# Altium footprint library KF terminal block.PcbLib: 57 footprints (part 3 of 4)
Each footprint in its own frame and in the unit in brackets; x right, y up, seen from the top. Pads: shape width x height; smd on the part's side, far side on the other; paste and mask are expansions set on the pad; w line width, h text height; cw(c..) or ccw(c..) is an arc to the next point about the centre after c.
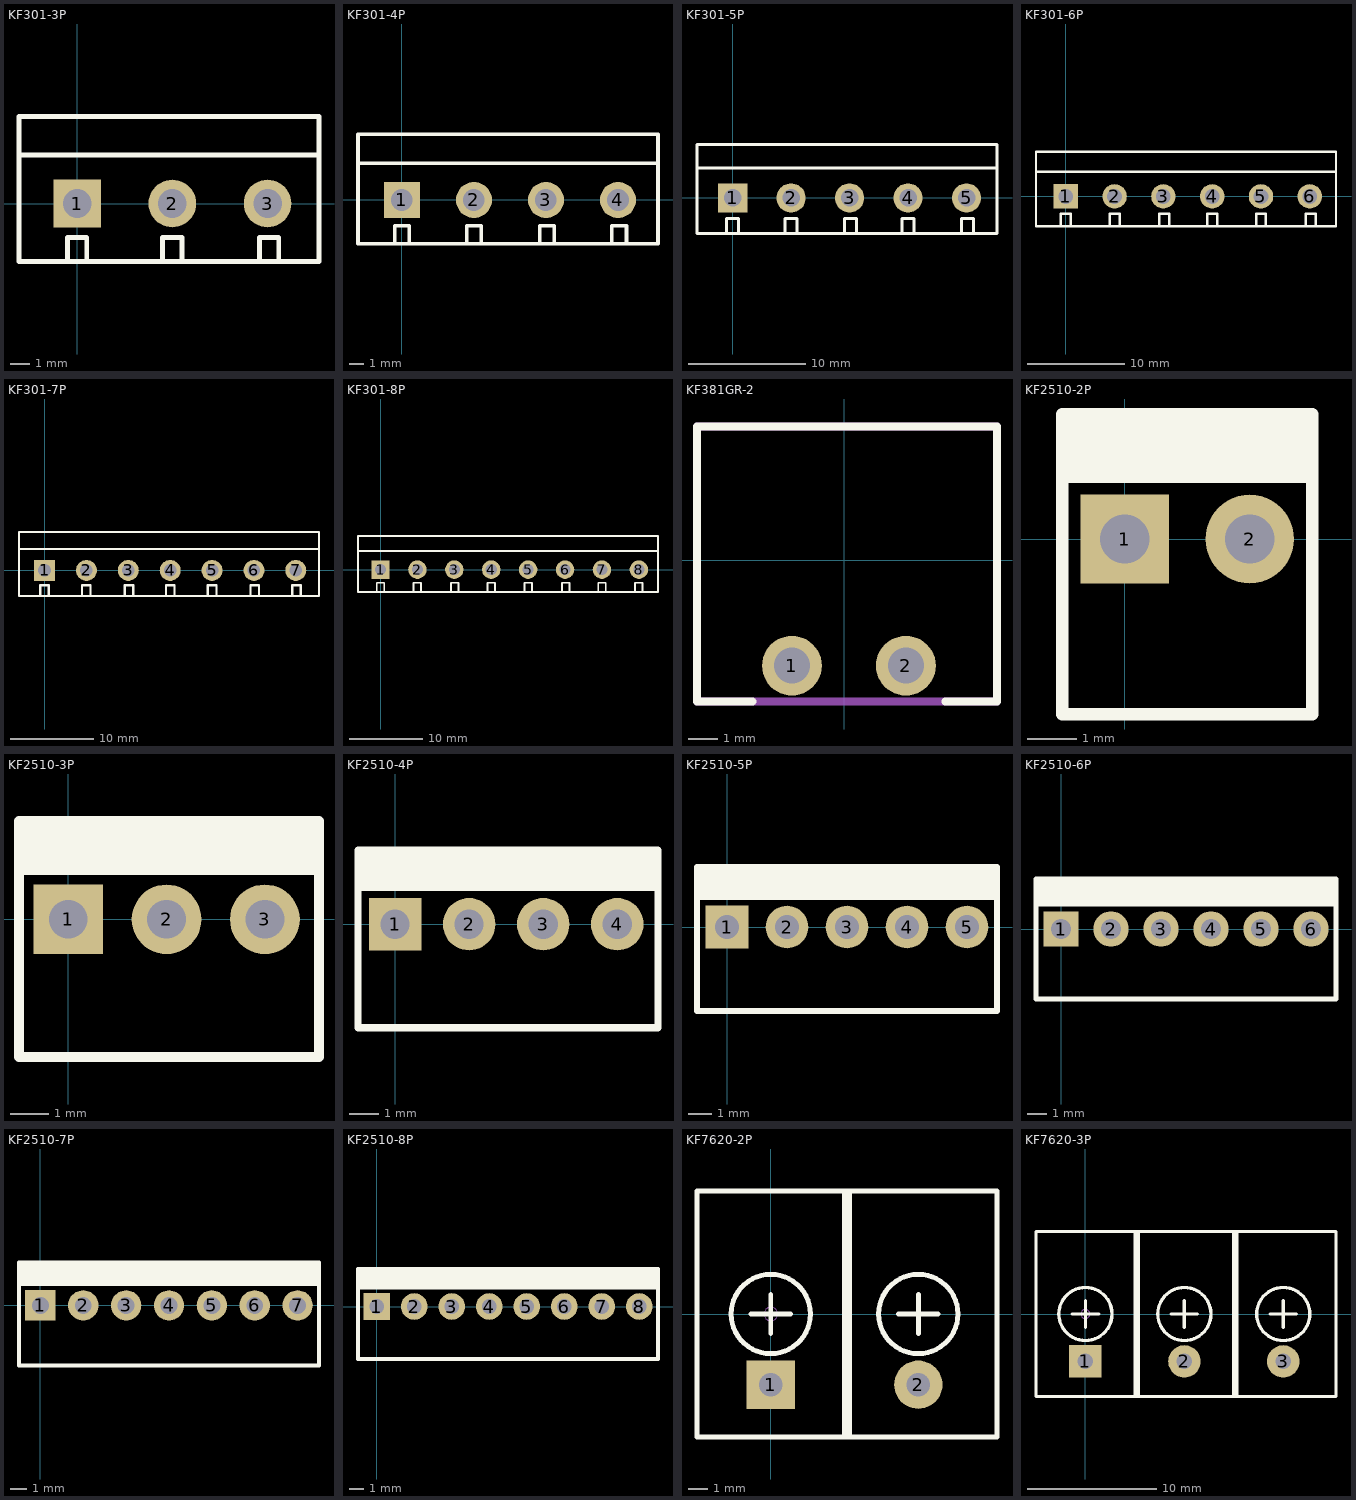
[diagram p2: the footprints below, top view; thin cyan lines are the x and y axes]

## KF301-3P [mm] "ï¿½ï¿½Æ´ï¿½Ó¶ï¿½ï¿½ï¿½/6A"
pads (3):
  rect 2.5x2.5 hole 1.5: 1(0,0)
  round 2.5 hole 1.5: 2(5,0) 3(10,0)
Top Overlay:
  lines w0.254: -3.048,2.54 12.7,2.54 ; -0.508,-3.048 -0.508,-1.778 0.508,-1.778 0.508,-3.048 ; 4.492,-3.048 4.492,-1.778 5.508,-1.778 5.508,-3.048 ; 9.572,-3.048 9.572,-1.778 10.588,-1.778 10.588,-3.048 ; -3.048,-3.048 12.7,-3.048 12.7,4.572 -3.048,4.572 -3.048,-3.048
3D body "KF301.STEP": height 10.05, standoff -3.75, extent -2.87,-3 2.63,4.6
3D body "KF301.STEP": height 10.05, standoff -3.75, extent 2.13,-3 7.63,4.6
3D body "KF301.STEP": height 10.05, standoff -3.75, extent 7.13,-3 12.63,4.6

## KF301-4P [mm] "ï¿½ï¿½Æ´ï¿½Ó¶ï¿½ï¿½ï¿½/6A"
pads (4):
  rect 2.5x2.5 hole 1.5: 1(0,0)
  round 2.5 hole 1.5: 2(5,0) 3(10,0) 4(15,0)
Top Overlay:
  lines w0.254: -3.048,2.54 17.78,2.54 ; -0.508,-3.048 -0.508,-1.778 0.508,-1.778 0.508,-3.048 ; 4.492,-3.048 4.492,-1.778 5.508,-1.778 5.508,-3.048 ; 9.572,-3.048 9.572,-1.778 10.588,-1.778 10.588,-3.048 ; 14.572,-3.048 14.572,-1.778 15.588,-1.778 15.588,-3.048 ; -3.048,-3.048 17.78,-3.048 17.78,4.572 -3.048,4.572 -3.048,-3.048
3D body "KF301.STEP": height 10.05, standoff -3.75, extent 12.13,-3 17.63,4.6
3D body "KF301.STEP": height 10.05, standoff -3.75, extent 7.13,-3 12.63,4.6
3D body "KF301.STEP": height 10.05, standoff -3.75, extent 2.13,-3 7.63,4.6
3D body "KF301.STEP": height 10.05, standoff -3.75, extent -2.87,-3 2.63,4.6

## KF301-5P [mm] "ï¿½ï¿½Æ´ï¿½Ó¶ï¿½ï¿½ï¿½/6A"
pads (5):
  rect 2.5x2.5 hole 1.5: 1(0,0)
  round 2.5 hole 1.5: 2(5,0) 3(10,0) 4(15,0) 5(20,0)
Top Overlay:
  lines w0.254: -3.048,2.54 22.606,2.54 ; -0.508,-3.048 -0.508,-1.778 0.508,-1.778 0.508,-3.048 ; 4.492,-3.048 4.492,-1.778 5.508,-1.778 5.508,-3.048 ; 9.572,-3.048 9.572,-1.778 10.588,-1.778 10.588,-3.048 ; 14.492,-3.048 14.492,-1.778 15.508,-1.778 15.508,-3.048 ; 19.572,-3.048 19.572,-1.778 20.588,-1.778 20.588,-3.048 ; -3.048,-3.048 22.606,-3.048 22.606,4.572 -3.048,4.572 -3.048,-3.048
3D body "KF301.STEP": height 10.05, standoff -3.75, extent -2.87,-3 2.63,4.6
3D body "KF301.STEP": height 10.05, standoff -3.75, extent 2.05,-3 7.55,4.6
3D body "KF301.STEP": height 10.05, standoff -3.75, extent 7.05,-3 12.55,4.6
3D body "KF301.STEP": height 10.05, standoff -3.75, extent 12.05,-3 17.55,4.6
3D body "KF301.STEP": height 10.05, standoff -3.75, extent 17.05,-3 22.55,4.6

## KF301-6P [mm] "ï¿½ï¿½Æ´ï¿½Ó¶ï¿½ï¿½ï¿½/6A"
pads (6):
  rect 2.5x2.5 hole 1.5: 1(0,0)
  round 2.5 hole 1.5: 2(5,0) 3(10,0) 4(15,0) 5(20,0) 6(25,0)
Top Overlay:
  lines w0.254: -3.048,2.54 27.686,2.54 ; -0.508,-3.048 -0.508,-1.778 0.508,-1.778 0.508,-3.048 ; 4.492,-3.048 4.492,-1.778 5.508,-1.778 5.508,-3.048 ; 9.572,-3.048 9.572,-1.778 10.588,-1.778 10.588,-3.048 ; 14.492,-3.048 14.492,-1.778 15.508,-1.778 15.508,-3.048 ; 19.492,-3.048 19.492,-1.778 20.508,-1.778 20.508,-3.048 ; 24.572,-3.048 24.572,-1.778 25.588,-1.778 25.588,-3.048 ; -3.048,-3.048 27.686,-3.048 27.686,4.572 -3.048,4.572 -3.048,-3.048
3D body "KF301.STEP": height 10.05, standoff -3.75, extent 22.13,-3 27.63,4.6
3D body "KF301.STEP": height 10.05, standoff -3.75, extent 17.13,-3 22.63,4.6
3D body "KF301.STEP": height 10.05, standoff -3.75, extent 12.13,-3 17.63,4.6
3D body "KF301.STEP": height 10.05, standoff -3.75, extent 7.13,-3 12.63,4.6
3D body "KF301.STEP": height 10.05, standoff -3.75, extent 2.13,-3 7.63,4.6
3D body "KF301.STEP": height 10.05, standoff -3.75, extent -2.87,-3 2.63,4.6

## KF301-7P [mm] "ï¿½ï¿½Æ´ï¿½Ó¶ï¿½ï¿½ï¿½/6A"
pads (7):
  rect 2.5x2.5 hole 1.5: 1(0,0)
  round 2.5 hole 1.5: 2(5,0) 3(10,0) 4(15,0) 5(20,0) 6(25,0) 7(30,0)
Top Overlay:
  lines w0.254: -3.048,2.54 32.766,2.54 ; -0.508,-3.048 -0.508,-1.778 0.508,-1.778 0.508,-3.048 ; 4.492,-3.048 4.492,-1.778 5.508,-1.778 5.508,-3.048 ; 9.572,-3.048 9.572,-1.778 10.588,-1.778 10.588,-3.048 ; 14.492,-3.048 14.492,-1.778 15.508,-1.778 15.508,-3.048 ; 19.492,-3.048 19.492,-1.778 20.508,-1.778 20.508,-3.048 ; 24.572,-3.048 24.572,-1.778 25.588,-1.778 25.588,-3.048 ; 29.572,-3.048 29.572,-1.778 30.588,-1.778 30.588,-3.048 ; -3.048,-3.048 -3.048,4.572 32.766,4.572 32.766,-3.048 -3.048,-3.048
3D body "KF301.STEP": height 10.05, standoff -3.75, extent 22.13,-3 27.63,4.6
3D body "KF301.STEP": height 10.05, standoff -3.75, extent 17.13,-3 22.63,4.6
3D body "KF301.STEP": height 10.05, standoff -3.75, extent 12.13,-3 17.63,4.6
3D body "KF301.STEP": height 10.05, standoff -3.75, extent 7.13,-3 12.63,4.6
3D body "KF301.STEP": height 10.05, standoff -3.75, extent 2.13,-3 7.63,4.6
3D body "KF301.STEP": height 10.05, standoff -3.75, extent -2.87,-3 2.63,4.6
3D body "KF301.STEP": height 10.05, standoff -3.75, extent 27.13,-3 32.63,4.6

## KF301-8P [mm] "ï¿½ï¿½Æ´ï¿½Ó¶ï¿½ï¿½ï¿½/6A"
pads (8):
  rect 2.5x2.5 hole 1.5: 1(0,0)
  round 2.5 hole 1.5: 2(5,0) 3(10,0) 4(15,0) 5(20,0) 6(25,0) 7(30,0) 8(35,0)
Top Overlay:
  lines w0.254: -3.048,2.54 37.592,2.54 ; -0.508,-3.048 -0.508,-1.778 0.508,-1.778 0.508,-3.048 ; 4.492,-3.048 4.492,-1.778 5.508,-1.778 5.508,-3.048 ; 9.572,-3.048 9.572,-1.778 10.588,-1.778 10.588,-3.048 ; 14.492,-3.048 14.492,-1.778 15.508,-1.778 15.508,-3.048 ; 19.492,-3.048 19.492,-1.778 20.508,-1.778 20.508,-3.048 ; 24.572,-3.048 24.572,-1.778 25.588,-1.778 25.588,-3.048 ; 29.492,-3.048 29.492,-1.778 30.508,-1.778 30.508,-3.048 ; 34.492,-3.048 34.492,-1.778 35.508,-1.778 35.508,-3.048 ; -3.048,-3.048 -3.048,4.572 37.592,4.572 37.592,-3.048 -3.048,-3.048
3D body "KF301.STEP": height 10.05, standoff -3.75, extent -2.87,-3 2.63,4.6
3D body "KF301.STEP": height 10.05, standoff -3.75, extent 2.13,-3 7.63,4.6
3D body "KF301.STEP": height 10.05, standoff -3.75, extent 7.13,-3 12.63,4.6
3D body "KF301.STEP": height 10.05, standoff -3.75, extent 12.13,-3 17.63,4.6
3D body "KF301.STEP": height 10.05, standoff -3.75, extent 17.13,-3 22.63,4.6
3D body "KF301.STEP": height 10.05, standoff -3.75, extent 22.13,-3 27.63,4.6
3D body "KF301.STEP": height 10.05, standoff -3.75, extent 27.13,-3 32.63,4.6
3D body "KF301.STEP": height 10.05, standoff -3.75, extent 32.13,-3 37.63,4.6

## KF381GR-2 [mm]
pads (2):
  round 2 hole 1.2: 1(-1.755,-3.533) 2(2.055,-3.533)
Top Overlay:
  lines w0.254: -3.075,-4.733 -4.93,-4.733 -4.93,4.467 5.103,4.467 5.103,-4.733 3.375,-4.733
Mechanical 13:
  lines w0.254: -4.93,-4.733 5.103,-4.733 5.103,4.467 -4.93,4.467 -4.93,-4.733
3D body "284513-2--3DModel-STEP-1.STEP": height 7.35, standoff -3.35, extent -4.807,-4.704 5.103,4.496

## KF2510-2P [mm] "ï¿½Ó²ï¿½ï¿½/2A"
height 11
pads (2):
  rect 1.8x1.8 hole 1: 1(0,0)
  round 1.8 hole 1: 2(2.54,0)
Top Overlay:
  rectangle: -1.321,1.27 3.759,2.54
  lines w0.254: -1.27,1.27 3.759,1.27 ; -1.27,-3.556 3.81,-3.556 3.81,2.54 -1.27,2.54 -1.27,-3.556
3D body "KF2510��.STEP": height 11.05, standoff -2.95, extent -1.27,-3.5 1.27,2.4
3D body "KF2510��.STEP": height 11.05, standoff -2.95, extent 1.27,-3.5 3.81,2.4

## KF2510-3P [mm] "ï¿½Ó²ï¿½ï¿½/2A"
pads (3):
  rect 1.8x1.8 hole 1: 1(0,0)
  round 1.8 hole 1: 2(2.54,0) 3(5.08,0)
Top Overlay:
  rectangle: -1.27,1.27 6.477,2.54
  lines w0.254: -1.27,1.27 6.477,1.27 ; -1.27,-3.556 -1.27,2.54 6.477,2.54 6.477,-3.556 -1.27,-3.556
3D body "KF2510��.STEP": height 11.05, standoff -2.95, extent 1.27,-3.5 3.81,2.4
3D body "KF2510��.STEP": height 11.05, standoff -2.95, extent -1.27,-3.5 1.27,2.4
3D body "KF2510��.STEP": height 11.05, standoff -2.95, extent 3.81,-3.5 6.35,2.4

## KF2510-4P [mm] "ï¿½Ó²ï¿½ï¿½/2A"
pads (4):
  rect 1.8x1.8 hole 1: 1(0,0)
  round 1.8 hole 1: 2(2.54,0) 3(5.08,0) 4(7.62,0)
Top Overlay:
  rectangle: -1.27,1.27 9.017,2.54
  lines w0.254: -1.27,1.27 9.017,1.27 ; -1.27,-3.556 9.017,-3.556 9.017,2.54 -1.27,2.54 -1.27,-3.556
3D body "KF2510��.STEP": height 11.05, standoff -2.95, extent 6.35,-3.5 8.89,2.4
3D body "KF2510��.STEP": height 11.05, standoff -2.95, extent -1.27,-3.5 1.27,2.4
3D body "KF2510��.STEP": height 11.05, standoff -2.95, extent 3.81,-3.5 6.35,2.4
3D body "KF2510��.STEP": height 11.05, standoff -2.95, extent 1.27,-3.5 3.81,2.4

## KF2510-5P [mm] "ï¿½Ó²ï¿½ï¿½/2A"
pads (5):
  rect 1.8x1.8 hole 1: 1(0,0)
  round 1.8 hole 1: 2(2.54,0) 3(5.08,0) 4(7.62,0) 5(10.16,0)
Top Overlay:
  rectangle: -1.27,1.27 11.43,2.538
  lines w0.254: -1.27,1.27 11.43,1.27 ; -1.27,-3.556 -1.27,2.54 11.43,2.54 11.43,-3.556 -1.27,-3.556
3D body "KF2510��.STEP": height 11.05, standoff -2.95, extent 8.89,-3.5 11.43,2.4
3D body "KF2510��.STEP": height 11.05, standoff -2.95, extent -1.27,-3.5 1.27,2.4
3D body "KF2510��.STEP": height 11.05, standoff -2.95, extent 6.35,-3.5 8.89,2.4
3D body "KF2510��.STEP": height 11.05, standoff -2.95, extent 3.81,-3.5 6.35,2.4
3D body "KF2510��.STEP": height 11.05, standoff -2.95, extent 1.27,-3.5 3.81,2.4

## KF2510-6P [mm] "ï¿½Ó²ï¿½ï¿½/2A"
pads (6):
  rect 1.8x1.8 hole 1: 1(0,0)
  round 1.8 hole 1: 2(2.54,0) 3(5.08,0) 4(7.62,0) 5(10.16,0) 6(12.7,0)
Top Overlay:
  rectangle: -1.27,1.27 13.97,2.54
  lines w0.254: -1.27,1.27 13.97,1.27 ; -1.27,-3.556 -1.27,2.54 13.97,2.54 13.97,-3.556 -1.27,-3.556
3D body "KF2510��.STEP": height 11.05, standoff -2.95, extent 11.43,-3.5 13.97,2.4
3D body "KF2510��.STEP": height 11.05, standoff -2.95, extent -1.27,-3.5 1.27,2.4
3D body "KF2510��.STEP": height 11.05, standoff -2.95, extent 8.89,-3.5 11.43,2.4
3D body "KF2510��.STEP": height 11.05, standoff -2.95, extent 6.35,-3.5 8.89,2.4
3D body "KF2510��.STEP": height 11.05, standoff -2.95, extent 3.81,-3.5 6.35,2.4
3D body "KF2510��.STEP": height 11.05, standoff -2.95, extent 1.27,-3.5 3.81,2.4

## KF2510-7P [mm] "ï¿½Ó²ï¿½ï¿½/2A"
pads (7):
  rect 1.8x1.8 hole 1: 1(0,0)
  round 1.8 hole 1: 2(2.54,0) 3(5.08,0) 4(7.62,0) 5(10.16,0) 6(12.7,0) 7(15.24,0)
Top Overlay:
  rectangle: -1.27,1.27 16.51,2.54
  lines w0.254: -1.27,1.27 16.51,1.27 ; -1.27,-3.556 -1.27,2.54 16.51,2.54 16.51,-3.556 -1.27,-3.556
3D body "KF2510��.STEP": height 11.05, standoff -2.95, extent 1.27,-3.5 3.81,2.4
3D body "KF2510��.STEP": height 11.05, standoff -2.95, extent 3.81,-3.5 6.35,2.4
3D body "KF2510��.STEP": height 11.05, standoff -2.95, extent 6.35,-3.5 8.89,2.4
3D body "KF2510��.STEP": height 11.05, standoff -2.95, extent 8.89,-3.5 11.43,2.4
3D body "KF2510��.STEP": height 11.05, standoff -2.95, extent 11.43,-3.5 13.97,2.4
3D body "KF2510��.STEP": height 11.05, standoff -2.95, extent -1.27,-3.5 1.27,2.4
3D body "KF2510��.STEP": height 11.05, standoff -2.95, extent 13.97,-3.5 16.51,2.4

## KF2510-8P [mm] "ï¿½Ó²ï¿½ï¿½/2A"
pads (8):
  rect 1.8x1.8 hole 1: 1(0,0)
  round 1.8 hole 1: 2(2.54,0) 3(5.08,0) 4(7.62,0) 5(10.16,0) 6(12.7,0) 7(15.24,0) 8(17.78,0)
Top Overlay:
  rectangle: -1.27,1.27 19.05,2.54
  lines w0.254: -1.27,1.27 19.05,1.27 ; -1.27,-3.556 19.05,-3.556 19.05,2.54 -1.27,2.54 -1.27,-3.556
3D body "KF2510��.STEP": height 11.05, standoff -2.95, extent 13.97,-3.5 16.51,2.4
3D body "KF2510��.STEP": height 11.05, standoff -2.95, extent 11.43,-3.5 13.97,2.4
3D body "KF2510��.STEP": height 11.05, standoff -2.95, extent 8.89,-3.5 11.43,2.4
3D body "KF2510��.STEP": height 11.05, standoff -2.95, extent 6.35,-3.5 8.89,2.4
3D body "KF2510��.STEP": height 11.05, standoff -2.95, extent 3.81,-3.5 6.35,2.4
3D body "KF2510��.STEP": height 11.05, standoff -2.95, extent 1.27,-3.5 3.81,2.4
3D body "KF2510��.STEP": height 11.05, standoff -2.95, extent 16.51,-3.5 19.05,2.4
3D body "KF2510��.STEP": height 11.05, standoff -2.95, extent -1.27,-3.5 1.27,2.4

## KF7620-2P [mm] "15.2*12*12mm(ï¿½ï¿½ï¿½ï¿½ï¿½)"
pads (2):
  rect 2.5x2.5 hole 1.2: 1(0,-3.65)
  round 2.5 hole 1.2: 2(7.62,-3.65)
Top Overlay:
  circle w0.254: c7.62,0 r2.048
  circle w0.254: c0,0 r2.048
  lines w0.254: -1.016,0 1.016,0 ; 0,-1.016 0,1.016 ; 3.81,-6.35 3.81,6.35 ; 4.064,6.35 4.064,-6.35 4.318,-6.35 ; 6.604,0 8.636,0 ; 7.62,-1.016 7.62,1.016 ; -3.81,-6.35 -3.81,6.35 11.684,6.35 11.684,-6.35 -3.81,-6.35
Mechanical 15:
  circle w0.05: c0,0 r0.35
  lines w0.05: -0.5,0 0.5,0 ; 0,-0.5 0,0.5
3D body "KF7620.STEP": height 12.45, standoff -3.45, extent -3.81,-6.2 4.51,6.2
3D body "KF7620.STEP": height 12.45, standoff -3.45, extent 3.81,-6.2 12.13,6.2

## KF7620-3P [mm] "22.8*12*12mm(ï¿½ï¿½ï¿½ï¿½ï¿½)"
pads (3):
  rect 2.5x2.5 hole 1.2: 1(0,-3.65)
  round 2.5 hole 1.2: 2(7.62,-3.65) 3(15.24,-3.65)
Top Overlay:
  circle w0.254: c15.24,0 r2.048
  circle w0.254: c7.62,0 r2.048
  circle w0.254: c0,0 r2.048
  lines w0.254: -1.016,0 1.016,0 ; 0,-1.016 0,1.016 ; 3.81,-6.35 3.81,6.35 ; 4.064,6.35 4.064,-6.35 4.318,-6.35 ; 6.604,0 8.636,0 ; 7.62,-1.016 7.62,1.016 ; 11.43,-6.35 11.43,6.35 ; 14.224,0 16.256,0 ; 15.24,-1.016 15.24,1.016 ; 11.684,-6.35 19.304,-6.35 19.304,6.35 11.684,6.35 ; 11.684,-6.35 -3.81,-6.35 -3.81,6.35 11.684,6.35 ; 11.684,-6.35 11.684,6.35
Mechanical 15:
  circle w0.05: c0,0 r0.35
  lines w0.05: -0.5,0 0.5,0 ; 0,-0.5 0,0.5
3D body "KF7620.STEP": height 12.45, standoff -3.45, extent 11.43,-6.2 19.75,6.2
3D body "KF7620.STEP": height 12.45, standoff -3.45, extent -3.81,-6.2 4.51,6.2
3D body "KF7620.STEP": height 12.45, standoff -3.45, extent 3.81,-6.2 12.13,6.2